# Altium schematic symbol library ISO1050DUBR.SchLib: 1 symbol
Pins are listed as number, name and electrical type; pins without a type are passive.

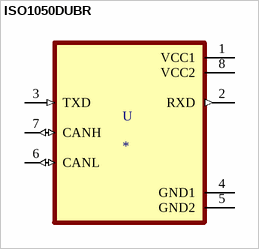
[diagram p0: symbol ISO1050DUBR]

## ISO1050DUBR
designator U
Isolated 5-V CAN transceiver 8-SOP -55 to 105; MP: ISO1050DUBR; MF: Texas Instruments; Package: SOP-8 Texas Instruments; DigiKey-Purchase-URL: https://snapeda.com/shop?store=DigiKey&id=334036; Mouser-Purchase-URL: https://snapeda.com/shop?store=Mouser&id=334036; Price: None; Availability: Good; Texas_Instruments-Purchase-URL: https://snapeda.com/shop?store=Texas+Instruments&id=334036; Arrow_Electronics-Purchase-URL: https://snapeda.com/shop?store=Arrow+Electronics&id=334036; Value: *; SnapEDA_Link: https://www.snapeda.com/parts/ISO1050DUBR/Texas%20Instruments/view-part/334036/?ref=snap
footprint SOP254P1040X485-8N
pins: 1 VCC1 (power), 2 RXD (out), 3 TXD (in), 4 GND1 (power), 5 GND2 (power), 6 CANL (io), 7 CANH (io), 8 VCC2 (power)